# Altium footprint library PowerCircuit.PcbLib: 12 footprints
Each footprint in its own frame and in the unit in brackets; x right, y up, seen from the top. Pads: shape width x height; smd on the part's side, far side on the other; paste and mask are expansions set on the pad; w line width, h text height; cw(c..) or ccw(c..) is an arc to the next point about the centre after c.
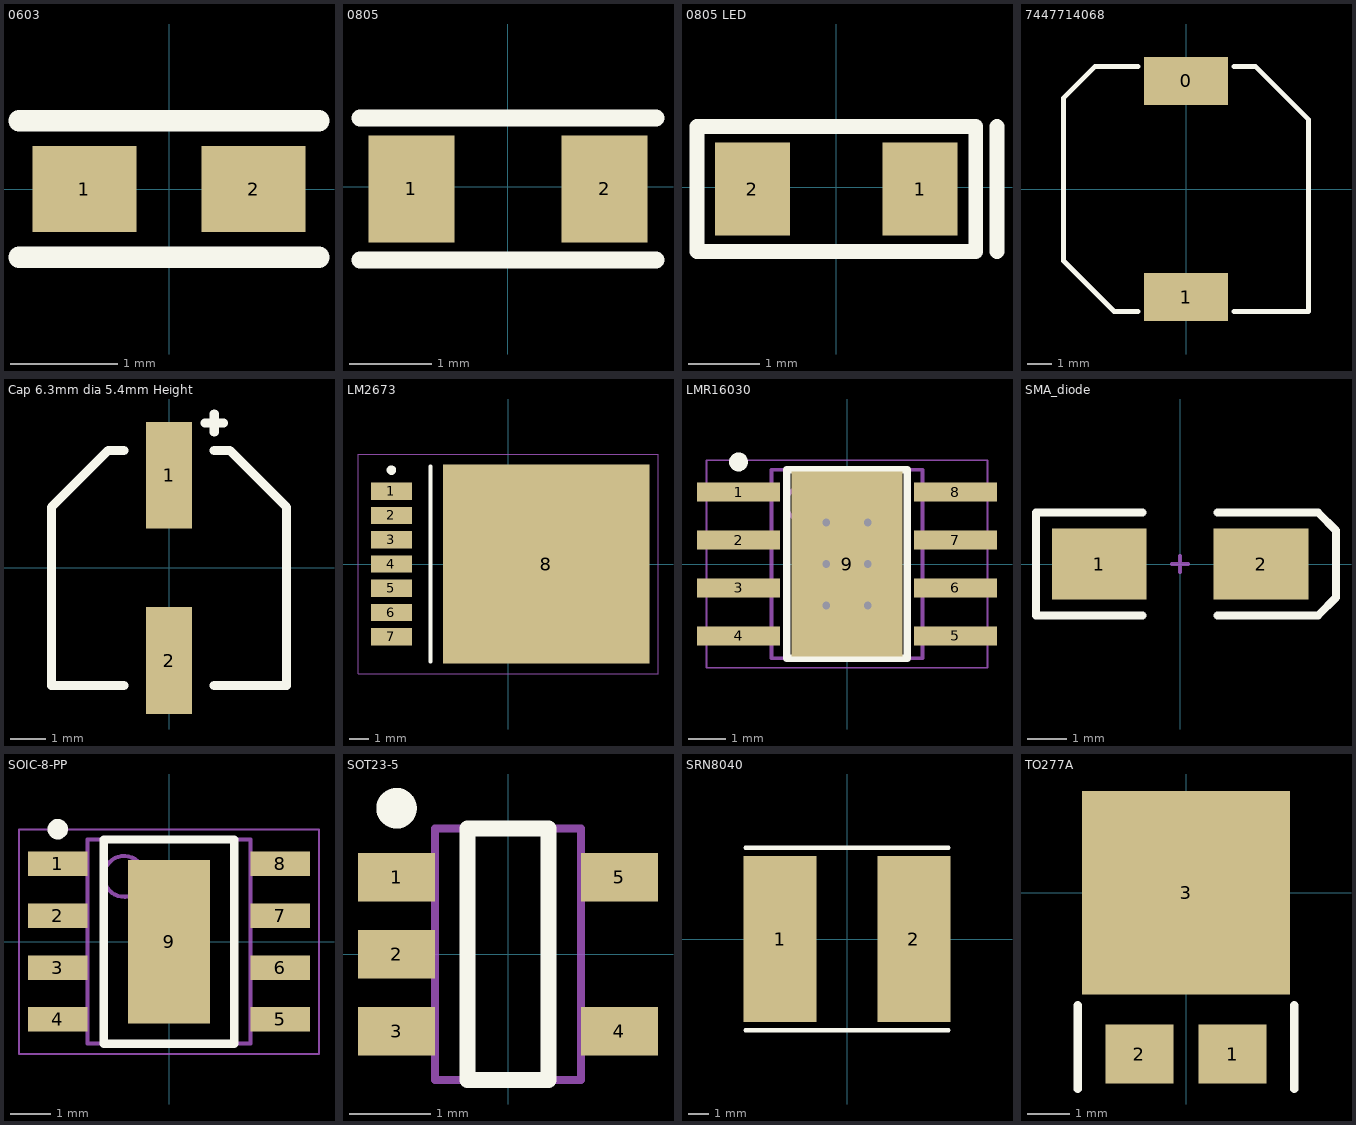
[diagram p0: the footprints below, top view; thin cyan lines are the x and y axes]

## 0603 [mm]
pads (2):
  rect 0.965x0.8 smd: 1(-0.787,0) 2(0.788,0)
Top Overlay:
  lines w0.2: -1.397,-0.635 1.397,-0.635 ; -1.397,0.635 1.397,0.635
3D body: height 0.5, standoff 0.03, extent -0.8,-0.4 0.8,0.4

## 0805 [mm] "0805 SMD"
pads (2):
  rect 1.05x1.3 smd: 1(-1.174,-0.025) 2(1.175,-0.025)
Top Overlay:
  lines w0.203: -1.803,-0.889 1.803,-0.889 ; -1.803,0.838 1.803,0.838
3D body: height 0.64, standoff 0.03, extent -1.45,-0.675 1.475,0.625

## 0805 LED [mm] "0805 SMD LED"
pads (2):
  rect 1.05x1.3 smd: 1(1.175,-0.025) 2(-1.174,-0.025)
Top Overlay:
  lines w0.203: 2.25,-0.9 2.25,0.85 ; -1.95,-0.9 1.95,-0.9 1.95,0.85 -1.95,0.85 -1.95,-0.9
3D body: height 0.64, standoff 0.03, extent -1.45,-0.675 1.475,0.625

## 7447714068 [mm] "Fixed Inductor 6.8uH 5A"
pads (2):
  rect 3.5x2 smd: 0(0,4.5) 1(0,-4.5)
Top Overlay:
  lines w0.2: -2,-5.1 -3,-5.1 -5.1,-3 -5.1,3.8 -3.8,5.1 -2,5.1 ; 2,-5.1 5.1,-5.1 5.1,2.9 2.9,5.1 2,5.1
3D body "STEP-WE-PD-1050-rev1.stp": height 4.8, standoff 0, extent -5,-5 5,5

## Cap 6.3mm dia 5.4mm Height [mm] "Cap 6.3mm dia 5.4mm Height"
pads (2):
  rect 1.3x3 smd: 1(0,2.6) 2(0,-2.6)
Top Overlay:
  lines w0.254: -1.27,-3.3 -3.3,-3.3 -3.3,1.7 -1.7,3.3 -1.27,3.3 ; 1.016,4.064 1.524,4.064 ; 1.27,-3.3 3.3,-3.3 3.3,1.7 1.7,3.3 1.27,3.3 ; 1.27,3.81 1.27,4.318
3D body: height 5.3, standoff 0, extent -3.125,-3.144 3.15,3.144

## LM2673 [mm] "D2-PAK, 8-Pads,"
height 4.75
pads (8):
  rect 2.16x0.91 smd: 1(-6.1,3.81) 2(-6.1,2.54) 3(-6.1,1.27) 4(-6.1,0) 5(-6.1,-1.27) 6(-6.1,-2.54) 7(-6.1,-3.81)
  rect 10.8x10.41 smd: 8(2,0)
Top Overlay:
  circle w0.25: c-6.1,4.91 r0.125
  lines w0.2: -4.05,-5.1 -4.05,5.1
Mechanical 13:
  lines w0.1: -2.7,-5.075 5.94,-5.075 5.94,5.075 -2.7,5.075 -2.7,-5.075
Mechanical 15:
  lines w0.05: -7.85,-5.75 7.85,-5.75 7.85,5.75 -7.85,5.75 -7.85,-5.75
  lines w0.1: -0.5,0 0.5,0 ; 0,-0.5 0,0.5
3D body "LM2673.step": height 4.85, standoff 0, extent -6.675,-5.4 7.675,5.4

## LMR16030 [mm]
height 1.75
pads (9):
  rect 2.2x0.5 smd: 1(-2.875,1.905) 2(-2.875,0.635) 3(-2.875,-0.635) 4(-2.875,-1.905) 5(2.875,-1.905) 6(2.875,-0.635) 7(2.875,0.635) 8(2.875,1.905)
  rect 2.95x4.9 smd: 9(0,0)
via 0.55,-1.1 diameter 0.5 hole 0.2
via -0.55,-1.1 diameter 0.5 hole 0.2
via 0.55,0 diameter 0.5 hole 0.2
via -0.55,0 diameter 0.5 hole 0.2
via 0.55,1.1 diameter 0.5 hole 0.2
via -0.55,1.1 diameter 0.5 hole 0.2
Top Overlay:
  circle w0.25: c-2.875,2.705 r0.125
  lines w0.2: -1.6,-2.5 1.6,-2.5 1.6,2.5 -1.6,2.5 -1.6,-2.5
Mechanical 13:
  circle w0.1: c-1.1,1.6 r0.5
  lines w0.1: -2,-2.5 2,-2.5 2,2.5 -2,2.5 -2,-2.5
Mechanical 15:
  lines w0.05: -3.725,-2.75 3.725,-2.75 3.725,2.75 -3.725,2.75 -3.725,-2.75
  lines w0.1: -0.5,0 0.5,0 ; 0,-0.5 0,0.5
3D body "LMR16030.step": height 1.75, standoff 0, extent -3.025,-2.5 3.025,2.5

## SMA_diode [mm] "DO-214-AC/SMA; 2 C-Bend Leads; Body 5 x 2.7 mm, inc. leads (LxW)"
height 2.44
pads (2):
  rect 2.4x1.8 smd: 1(-2.05,0) 2(2.05,0)
Top Overlay:
  lines w0.2: -0.95,-1.3 -3.65,-1.3 -3.65,1.3 -0.95,1.3 ; 0.95,-1.3 3.5,-1.3 3.95,-0.85 3.95,0.85 3.5,1.3 0.95,1.3
Mechanical 1:
  lines w0.1: -0.2,0 0.2,0 ; 0,-0.2 0,0.2

## SOIC-8-PP [mm] "DMP3037LSS"
height 1.75
pads (9):
  rect 1.45x0.6 smd: 1(-2.725,1.905) 2(-2.725,0.635) 3(-2.725,-0.635) 4(-2.725,-1.905) 5(2.725,-1.905) 6(2.725,-0.635) 7(2.725,0.635) 8(2.725,1.905)
  rect 2x4 smd: 9(0,0)
Top Overlay:
  circle w0.25: c-2.725,2.755 r0.125
  lines w0.2: -1.6,-2.5 -1.6,2.5 1.6,2.5 1.6,-2.5 -1.6,-2.5
Mechanical 13:
  circle w0.1: c-1.1,1.6 r0.5
  lines w0.1: -2,-2.5 -2,2.5 2,2.5 2,-2.5 -2,-2.5
Mechanical 15:
  lines w0.05: -3.675,-2.75 -3.675,2.75 3.675,2.75 3.675,-2.75 -3.675,-2.75
3D body "PowerMosfet.step": height 1.75, standoff 0, extent -3,-2.5 3,2.5

## SOT23-5 [mm] "SOT23, 5-Leads, Body 2.90x2.80mm, Pitch 0.95mm, IPC Medium Density"
height 1.1
pads (5):
  rect 0.95x0.6 smd: 1(-1.375,0.95) 2(-1.375,0) 3(-1.375,-0.95) 4(1.375,-0.95) 5(1.375,0.95)
Top Overlay:
  circle w0.25: c-1.375,1.8 r0.125
  lines w0.2: -0.5,-1.55 -0.5,1.55 0.5,1.55 0.5,-1.55 -0.5,-1.55
Mechanical 13:
  lines w0.1: -0.9,-1.55 0.9,-1.55 0.9,1.55 -0.9,1.55 -0.9,-1.55
3D body: height 1.1, standoff 0.1, extent -0.9,-1.55 0.9,1.55

## SRN8040 [mm] "SRN8040 inductor series Bourns"
pads (2):
  rect 3.6x8.2 smd: 1(-3.3,0) 2(3.3,0)
Top Overlay:
  lines w0.203: -5,-4.5 5,-4.5 ; -5,4.5 5,4.5
3D body: height 4, standoff 0, extent -4,-4 4,4

## TO277A [mm]
pads (3):
  rect 1.6x1.4 smd: 1(1.1,-3.8) 2(-1.1,-3.8)
  rect 4.9x4.8 smd: 3(0,0)
Top Overlay:
  lines w0.2: -2.55,-4.625 -2.55,-2.65 ; 2.55,-4.625 2.55,-2.65
3D body: height 1.2, standoff 0, extent -2.375,-4.375 2.35,2.4